# Altium footprint library PcbLib1.PcbLib: 3 footprints
Each footprint in its own frame and in the unit in brackets; x right, y up, seen from the top. Pads: shape width x height; smd on the part's side, far side on the other; paste and mask are expansions set on the pad; w line width, h text height; cw(c..) or ccw(c..) is an arc to the next point about the centre after c.
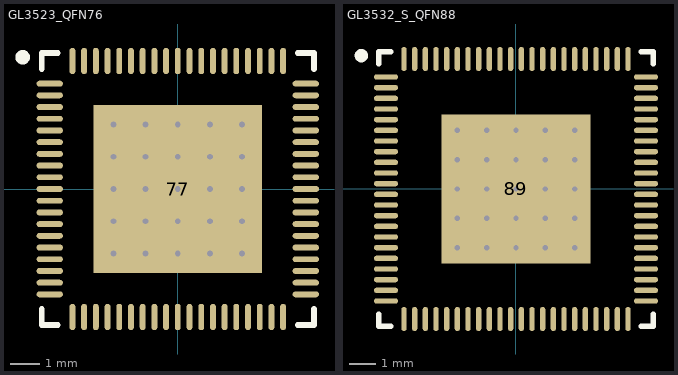
[diagram p0: the footprints below, top view; thin cyan lines are the x and y axes]

## GL3523_QFN76 [mm] "QFN, 76-Leads, Body 9.00x9.00mm, Pitch 0.40mm, Thermal Pad 5.75x5.75mm, IPC Medium Density"
height 0.9
pads (77):
  oval 0.9x0.2 smd: 1(-4.375,3.6) 2(-4.375,3.2) 3(-4.375,2.8) 4(-4.375,2.4) 5(-4.375,2) 6(-4.375,1.6) 7(-4.375,1.2) 8(-4.375,0.8) 9(-4.375,0.4) 10(-4.375,0) 11(-4.375,-0.4) 12(-4.375,-0.8) 13(-4.375,-1.2) 14(-4.375,-1.6) 15(-4.375,-2) 16(-4.375,-2.4) 17(-4.375,-2.8) 18(-4.375,-3.2) 19(-4.375,-3.6) 39(4.375,-3.6) 40(4.375,-3.2) 41(4.375,-2.8) 42(4.375,-2.4) 43(4.375,-2) 44(4.375,-1.6) 45(4.375,-1.2) 46(4.375,-0.8) 47(4.375,-0.4) 48(4.375,0) 49(4.375,0.4) 50(4.375,0.8) 51(4.375,1.2) 52(4.375,1.6) 53(4.375,2) 54(4.375,2.4) 55(4.375,2.8) 56(4.375,3.2) 57(4.375,3.6)
  oval 0.2x0.9 smd: 20(-3.6,-4.375) 21(-3.2,-4.375) 22(-2.8,-4.375) 23(-2.4,-4.375) 24(-2,-4.375) 25(-1.6,-4.375) 26(-1.2,-4.375) 27(-0.8,-4.375) 28(-0.4,-4.375) 29(0,-4.375) 30(0.4,-4.375) 31(0.8,-4.375) 32(1.2,-4.375) 33(1.6,-4.375) 34(2,-4.375) 35(2.4,-4.375) 36(2.8,-4.375) 37(3.2,-4.375) 38(3.6,-4.375) 58(3.6,4.375) 59(3.2,4.375) 60(2.8,4.375) 61(2.4,4.375) 62(2,4.375) 63(1.6,4.375) 64(1.2,4.375) 65(0.8,4.375) 66(0.4,4.375) 67(0,4.375) 68(-0.4,4.375) 69(-0.8,4.375) 70(-1.2,4.375) 71(-1.6,4.375) 72(-2,4.375) 73(-2.4,4.375) 74(-2.8,4.375) 75(-3.2,4.375) 76(-3.6,4.375)
  rect 5.75x5.75 smd: 77(0,0)
via -2.2,2.2 diameter 0.5 hole 0.2
via -1.1,2.2 diameter 0.5 hole 0.2
via 0,2.2 diameter 0.5 hole 0.2
via 1.1,2.2 diameter 0.5 hole 0.2
via 2.2,2.2 diameter 0.5 hole 0.2
via -2.2,1.1 diameter 0.5 hole 0.2
via -1.1,1.1 diameter 0.5 hole 0.2
via 0,1.1 diameter 0.5 hole 0.2
via 1.1,1.1 diameter 0.5 hole 0.2
via 2.2,1.1 diameter 0.5 hole 0.2
via -2.2,0 diameter 0.5 hole 0.2
via -1.1,0 diameter 0.5 hole 0.2
via 0,0 diameter 0.5 hole 0.2
via 1.1,0 diameter 0.5 hole 0.2
via 2.2,0 diameter 0.5 hole 0.2
via -2.2,-1.1 diameter 0.5 hole 0.2
via -1.1,-1.1 diameter 0.5 hole 0.2
via 0,-1.1 diameter 0.5 hole 0.2
via 1.1,-1.1 diameter 0.5 hole 0.2
via 2.2,-1.1 diameter 0.5 hole 0.2
via -2.2,-2.2 diameter 0.5 hole 0.2
via -1.1,-2.2 diameter 0.5 hole 0.2
via 0,-2.2 diameter 0.5 hole 0.2
via 1.1,-2.2 diameter 0.5 hole 0.2
via 2.2,-2.2 diameter 0.5 hole 0.2
Top Overlay:
  circle w0.25: c-5.3,4.5 r0.125
  lines w0.2: -4.65,-4.1 -4.65,-4.65 -4.1,-4.65 ; -4.65,4.1 -4.65,4.65 -4.1,4.65 ; 4.1,-4.65 4.65,-4.65 4.65,-4.1 ; 4.1,4.65 4.65,4.65 4.65,4.1

## GL3532_S_QFN88 [mm] "QFN, 88-Leads, Body 10.00x10.00mm, Pitch 0.40mm, Thermal Pad 5.60x5.60mm, IPC Medium Density"
height 0.75
pads (89):
  oval 0.9x0.2 smd: 1(-4.875,4.2) 2(-4.875,3.8) 3(-4.875,3.4) 4(-4.875,3) 5(-4.875,2.6) 6(-4.875,2.2) 7(-4.875,1.8) 8(-4.875,1.4) 9(-4.875,1) 10(-4.875,0.6) 11(-4.875,0.2) 12(-4.875,-0.2) 13(-4.875,-0.6) 14(-4.875,-1) 15(-4.875,-1.4) 16(-4.875,-1.8) 17(-4.875,-2.2) 18(-4.875,-2.6) 19(-4.875,-3) 20(-4.875,-3.4) 21(-4.875,-3.8) 22(-4.875,-4.2) 45(4.875,-4.2) 46(4.875,-3.8) 47(4.875,-3.4) 48(4.875,-3) 49(4.875,-2.6) 50(4.875,-2.2) 51(4.875,-1.8) 52(4.875,-1.4) 53(4.875,-1) 54(4.875,-0.6) 55(4.875,-0.2) 56(4.875,0.2) 57(4.875,0.6) 58(4.875,1) 59(4.875,1.4) 60(4.875,1.8) 61(4.875,2.2) 62(4.875,2.6) 63(4.875,3) 64(4.875,3.4) 65(4.875,3.8) 66(4.875,4.2)
  oval 0.2x0.9 smd: 23(-4.2,-4.875) 24(-3.8,-4.875) 25(-3.4,-4.875) 26(-3,-4.875) 27(-2.6,-4.875) 28(-2.2,-4.875) 29(-1.8,-4.875) 30(-1.4,-4.875) 31(-1,-4.875) 32(-0.6,-4.875) 33(-0.2,-4.875) 34(0.2,-4.875) 35(0.6,-4.875) 36(1,-4.875) 37(1.4,-4.875) 38(1.8,-4.875) 39(2.2,-4.875) 40(2.6,-4.875) 41(3,-4.875) 42(3.4,-4.875) 43(3.8,-4.875) 44(4.2,-4.875) 67(4.2,4.875) 68(3.8,4.875) 69(3.4,4.875) 70(3,4.875) 71(2.6,4.875) 72(2.2,4.875) 73(1.8,4.875) 74(1.4,4.875) 75(1,4.875) 76(0.6,4.875) 77(0.2,4.875) 78(-0.2,4.875) 79(-0.6,4.875) 80(-1,4.875) 81(-1.4,4.875) 82(-1.8,4.875) 83(-2.2,4.875) 84(-2.6,4.875) 85(-3,4.875) 86(-3.4,4.875) 87(-3.8,4.875) 88(-4.2,4.875)
  rect 5.6x5.6 smd: 89(0,0)
via 2.2,-2.2 diameter 0.5 hole 0.2
via 1.1,-2.2 diameter 0.5 hole 0.2
via 0,-2.2 diameter 0.5 hole 0.2
via -1.1,-2.2 diameter 0.5 hole 0.2
via -2.2,-2.2 diameter 0.5 hole 0.2
via 2.2,-1.1 diameter 0.5 hole 0.2
via 1.1,-1.1 diameter 0.5 hole 0.2
via 0,-1.1 diameter 0.5 hole 0.2
via -1.1,-1.1 diameter 0.5 hole 0.2
via -2.2,-1.1 diameter 0.5 hole 0.2
via 2.2,0 diameter 0.5 hole 0.2
via 1.1,0 diameter 0.5 hole 0.2
via 0,0 diameter 0.5 hole 0.2
via -1.1,0 diameter 0.5 hole 0.2
via -2.2,0 diameter 0.5 hole 0.2
via 2.2,1.1 diameter 0.5 hole 0.2
via 1.1,1.1 diameter 0.5 hole 0.2
via 0,1.1 diameter 0.5 hole 0.2
via -1.1,1.1 diameter 0.5 hole 0.2
via -2.2,1.1 diameter 0.5 hole 0.2
via 2.2,2.2 diameter 0.5 hole 0.2
via 1.1,2.2 diameter 0.5 hole 0.2
via 0,2.2 diameter 0.5 hole 0.2
via -1.1,2.2 diameter 0.5 hole 0.2
via -2.2,2.2 diameter 0.5 hole 0.2
Top Overlay:
  circle w0.25: c-5.8,5 r0.125
  lines w0.2: -5.15,-4.7 -5.15,-5.15 -4.7,-5.15 ; -5.15,4.7 -5.15,5.15 -4.7,5.15 ; 4.7,-5.15 5.15,-5.15 5.15,-4.7 ; 4.7,5.15 5.15,5.15 5.15,4.7

## PCBComponent_1 - duplicate1 [mm]